# Altium footprint library XT60PW-F.PcbLib: 1 footprints
Each footprint in its own frame and in the unit in brackets; x right, y up, seen from the top. Pads: shape width x height; smd on the part's side, far side on the other; paste and mask are expansions set on the pad; w line width, h text height; cw(c..) or ccw(c..) is an arc to the next point about the centre after c.
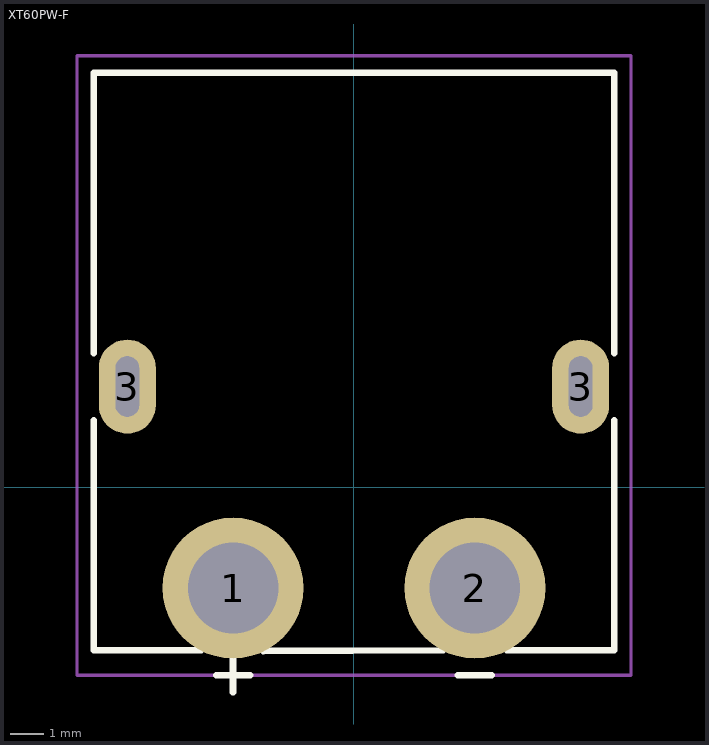
[diagram p0: the footprint, top view; thin cyan lines are the x and y axes]

## XT60PW-F [mm]
pads (4):
  round 4.2 hole 2.7: 1(-3.6,-3) 2(3.6,-3)
  oval 1.7x2.8 hole 0.7 slot 1.8 at 90 deg: 3(-6.75,3) 3(6.75,3)
Top Overlay:
  lines w0.2: -7.75,2 -7.75,-4.85 -4.55,-4.85 ; -7.75,4 -7.75,12.35 7.75,12.35 7.75,4 ; -4.1,-5.6 -3.1,-5.6 ; -3.6,-6.1 -3.6,-5.1 ; -2.7,-4.875 2.65,-4.85 ; 3.1,-5.6 4.1,-5.6 ; 4.55,-4.85 7.75,-4.85 7.75,2
Top Courtyard:
  lines w0.1: -8.25,-5.6 -8.25,12.85 8.25,12.85 8.25,-5.6 -3.6,-5.6 -8.25,-5.6
3D body "XT60PW-F--3DModel-STEP-56544.STEP": height 8.5, standoff -2.45, extent -7.75,-4.85 7.75,12.35